# Altium footprint library SOP.PcbLib: 214 footprints (part 9 of 14)
Each footprint in its own frame and in the unit in brackets; x right, y up, seen from the top. Pads: shape width x height; smd on the part's side, far side on the other; paste and mask are expansions set on the pad; w line width, h text height; cw(c..) or ccw(c..) is an arc to the next point about the centre after c.
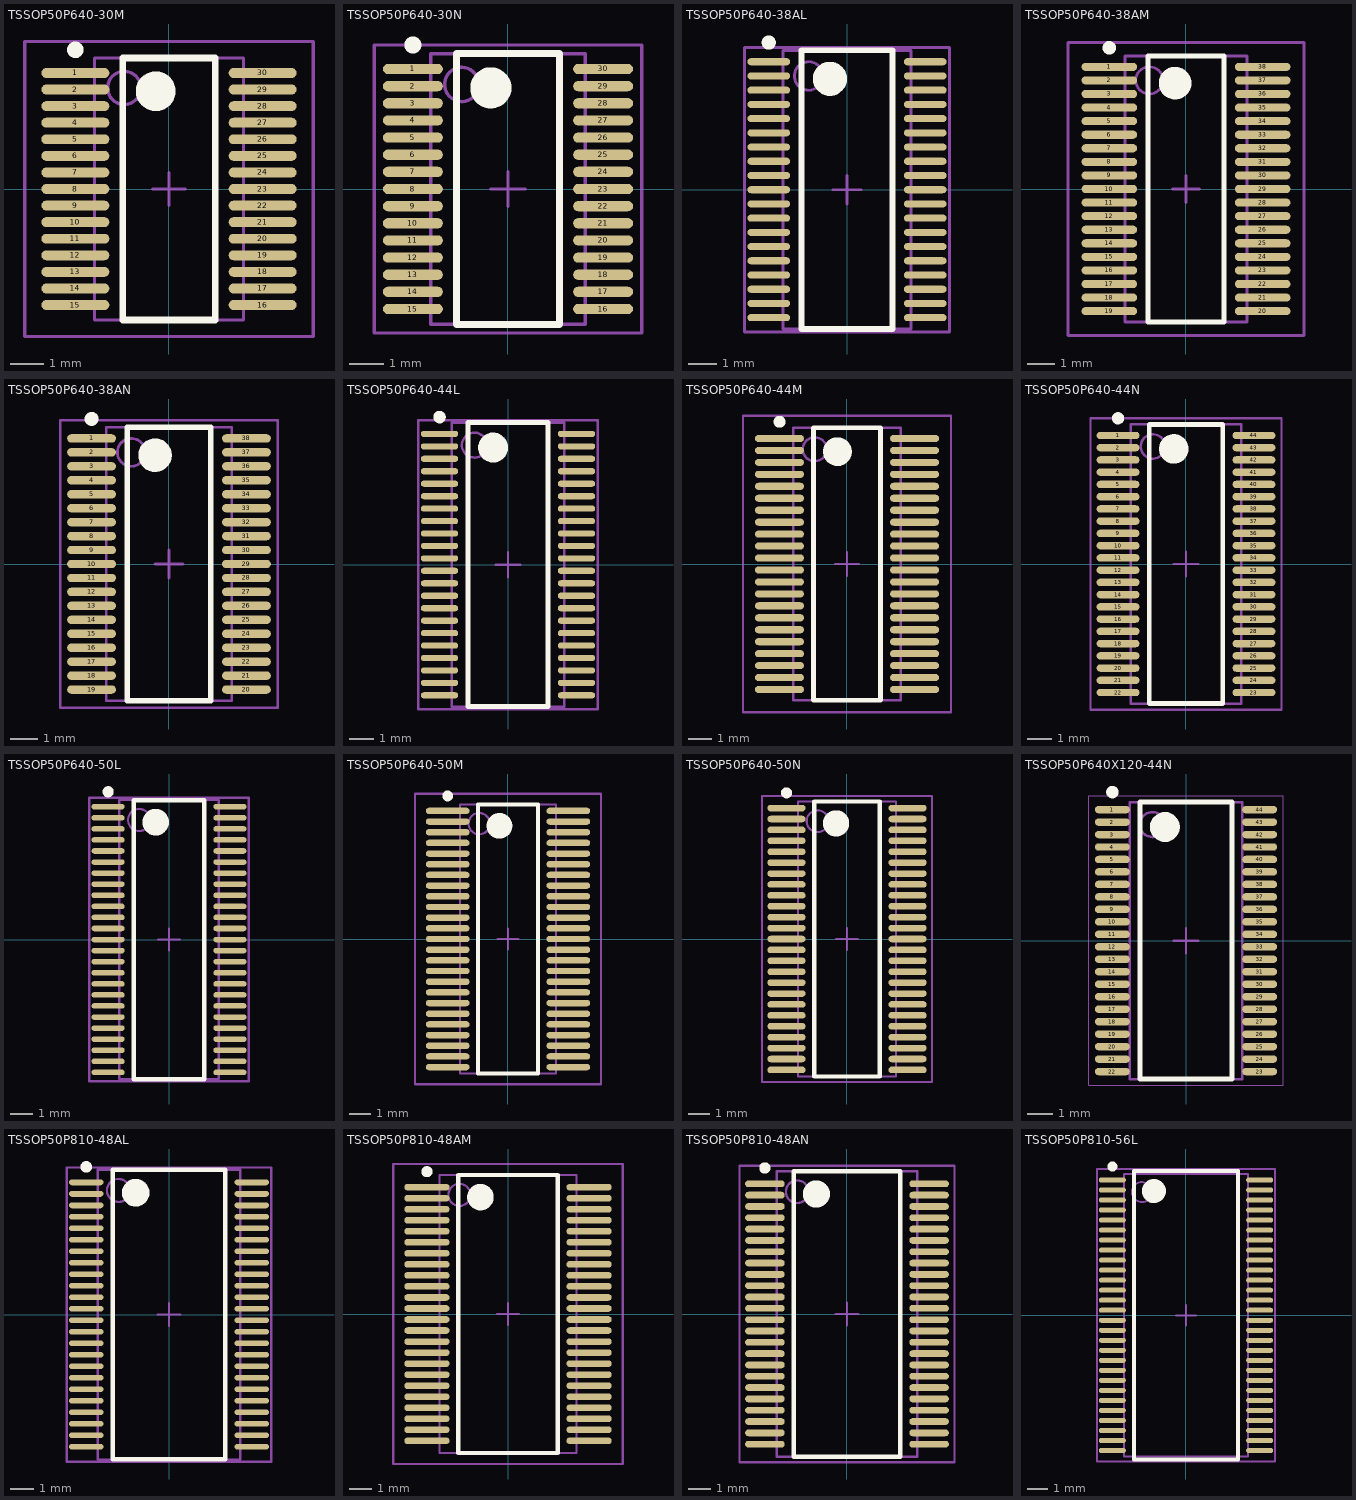
[diagram p8: the footprints below, top view; thin cyan lines are the x and y axes]

## TSSOP50P640-30M [mm] "TSSOP, 30-Leads, Body 7.8x4.4mm, Pitch 0.5mm, IPC Low Density"
height 1.2
pads (30):
  oval 2.05x0.3 smd: 1(-2.825,3.5) 2(-2.825,3) 3(-2.825,2.5) 4(-2.825,2) 5(-2.825,1.5) 6(-2.825,1) 7(-2.825,0.5) 8(-2.825,0) 9(-2.825,-0.5) 10(-2.825,-1) 11(-2.825,-1.5) 12(-2.825,-2) 13(-2.825,-2.5) 14(-2.825,-3) 15(-2.825,-3.5) 16(2.825,-3.5) 17(2.825,-3) 18(2.825,-2.5) 19(2.825,-2) 20(2.825,-1.5) 21(2.825,-1) 22(2.825,-0.5) 23(2.825,0) 24(2.825,0.5) 25(2.825,1) 26(2.825,1.5) 27(2.825,2) 28(2.825,2.5) 29(2.825,3) 30(2.825,3.5)
Top Overlay:
  circle w0.6: c-0.4,2.95 r0.3
  circle w0.25: c-2.825,4.2 r0.125
  lines w0.2: -1.4,-3.95 1.4,-3.95 1.4,3.95 -1.4,3.95 -1.4,-3.95
Mechanical 13:
  circle w0.1: c-1.35,3.05 r0.5
  lines w0.1: -2.25,-3.95 2.25,-3.95 2.25,3.95 -2.25,3.95 -2.25,-3.95
Mechanical 15:
  lines w0.1: -0.5,0 0.5,0 ; 0,-0.5 0,0.5 ; -4.35,-4.45 4.35,-4.45 4.35,4.45 -4.35,4.45 -4.35,-4.45
3D body: height 1.2, standoff 0, extent -2.25,-3.95 2.25,3.95

## TSSOP50P640-30N [mm] "TSSOP, 30-Leads, Body 7.8x4.4mm, Pitch 0.5mm, IPC Medium Density"
height 1.2
pads (30):
  oval 1.75x0.3 smd: 1(-2.775,3.5) 2(-2.775,3) 3(-2.775,2.5) 4(-2.775,2) 5(-2.775,1.5) 6(-2.775,1) 7(-2.775,0.5) 8(-2.775,0) 9(-2.775,-0.5) 10(-2.775,-1) 11(-2.775,-1.5) 12(-2.775,-2) 13(-2.775,-2.5) 14(-2.775,-3) 15(-2.775,-3.5) 16(2.775,-3.5) 17(2.775,-3) 18(2.775,-2.5) 19(2.775,-2) 20(2.775,-1.5) 21(2.775,-1) 22(2.775,-0.5) 23(2.775,0) 24(2.775,0.5) 25(2.775,1) 26(2.775,1.5) 27(2.775,2) 28(2.775,2.5) 29(2.775,3) 30(2.775,3.5)
Top Overlay:
  circle w0.6: c-0.5,2.95 r0.3
  circle w0.25: c-2.775,4.2 r0.125
  lines w0.2: -1.5,-3.95 1.5,-3.95 1.5,3.95 -1.5,3.95 -1.5,-3.95
Mechanical 13:
  circle w0.1: c-1.35,3.05 r0.5
  lines w0.1: -2.25,-3.95 2.25,-3.95 2.25,3.95 -2.25,3.95 -2.25,-3.95
Mechanical 15:
  lines w0.1: -0.5,0 0.5,0 ; 0,-0.5 0,0.5 ; -3.9,-4.2 3.9,-4.2 3.9,4.2 -3.9,4.2 -3.9,-4.2
3D body: height 1.2, standoff 0, extent -2.25,-3.95 2.25,3.95

## TSSOP50P640-38AL [mm] "TSSOP, 38-Leads, Body 9.7x4.4mm, Pitch 0.5mm, IPC High Density"
height 1.2
pads (38):
  oval 1.5x0.25 smd: 1(-2.75,4.5) 2(-2.75,4) 3(-2.75,3.5) 4(-2.75,3) 5(-2.75,2.5) 6(-2.75,2) 7(-2.75,1.5) 8(-2.75,1) 9(-2.75,0.5) 10(-2.75,0) 11(-2.75,-0.5) 12(-2.75,-1) 13(-2.75,-1.5) 14(-2.75,-2) 15(-2.75,-2.5) 16(-2.75,-3) 17(-2.75,-3.5) 18(-2.75,-4) 19(-2.75,-4.5) 20(2.75,-4.5) 21(2.75,-4) 22(2.75,-3.5) 23(2.75,-3) 24(2.75,-2.5) 25(2.75,-2) 26(2.75,-1.5) 27(2.75,-1) 28(2.75,-0.5) 29(2.75,0) 30(2.75,0.5) 31(2.75,1) 32(2.75,1.5) 33(2.75,2) 34(2.75,2.5) 35(2.75,3) 36(2.75,3.5) 37(2.75,4) 38(2.75,4.5)
Top Overlay:
  circle w0.6: c-0.6,3.9 r0.3
  circle w0.25: c-2.75,5.175 r0.125
  lines w0.2: -1.6,-4.9 1.6,-4.9 1.6,4.9 -1.6,4.9 -1.6,-4.9
Mechanical 13:
  circle w0.1: c-1.35,4 r0.5
  lines w0.1: -2.25,-4.9 2.25,-4.9 2.25,4.9 -2.25,4.9 -2.25,-4.9
Mechanical 15:
  lines w0.1: -0.5,0 0.5,0 ; 0,-0.5 0,0.5 ; -3.6,-5 3.6,-5 3.6,5 -3.6,5 -3.6,-5
3D body: height 1.2, standoff 0, extent -2.25,-4.9 2.25,4.9

## TSSOP50P640-38AM [mm] "TSSOP, 38-Leads, Body 9.7x4.4mm, Pitch 0.5mm, IPC Low Density"
height 1.2
pads (38):
  oval 2.05x0.3 smd: 1(-2.825,4.5) 2(-2.825,4) 3(-2.825,3.5) 4(-2.825,3) 5(-2.825,2.5) 6(-2.825,2) 7(-2.825,1.5) 8(-2.825,1) 9(-2.825,0.5) 10(-2.825,0) 11(-2.825,-0.5) 12(-2.825,-1) 13(-2.825,-1.5) 14(-2.825,-2) 15(-2.825,-2.5) 16(-2.825,-3) 17(-2.825,-3.5) 18(-2.825,-4) 19(-2.825,-4.5) 20(2.825,-4.5) 21(2.825,-4) 22(2.825,-3.5) 23(2.825,-3) 24(2.825,-2.5) 25(2.825,-2) 26(2.825,-1.5) 27(2.825,-1) 28(2.825,-0.5) 29(2.825,0) 30(2.825,0.5) 31(2.825,1) 32(2.825,1.5) 33(2.825,2) 34(2.825,2.5) 35(2.825,3) 36(2.825,3.5) 37(2.825,4) 38(2.825,4.5)
Top Overlay:
  circle w0.6: c-0.4,3.9 r0.3
  circle w0.25: c-2.825,5.2 r0.125
  lines w0.2: -1.4,-4.9 1.4,-4.9 1.4,4.9 -1.4,4.9 -1.4,-4.9
Mechanical 13:
  circle w0.1: c-1.35,4 r0.5
  lines w0.1: -2.25,-4.9 2.25,-4.9 2.25,4.9 -2.25,4.9 -2.25,-4.9
Mechanical 15:
  lines w0.1: -0.5,0 0.5,0 ; 0,-0.5 0,0.5 ; -4.35,-5.4 4.35,-5.4 4.35,5.4 -4.35,5.4 -4.35,-5.4
3D body: height 1.2, standoff 0, extent -2.25,-4.9 2.25,4.9

## TSSOP50P640-38AN [mm] "TSSOP, 38-Leads, Body 9.7x4.4mm, Pitch 0.5mm, IPC Medium Density"
height 1.2
pads (38):
  oval 1.75x0.3 smd: 1(-2.775,4.5) 2(-2.775,4) 3(-2.775,3.5) 4(-2.775,3) 5(-2.775,2.5) 6(-2.775,2) 7(-2.775,1.5) 8(-2.775,1) 9(-2.775,0.5) 10(-2.775,0) 11(-2.775,-0.5) 12(-2.775,-1) 13(-2.775,-1.5) 14(-2.775,-2) 15(-2.775,-2.5) 16(-2.775,-3) 17(-2.775,-3.5) 18(-2.775,-4) 19(-2.775,-4.5) 20(2.775,-4.5) 21(2.775,-4) 22(2.775,-3.5) 23(2.775,-3) 24(2.775,-2.5) 25(2.775,-2) 26(2.775,-1.5) 27(2.775,-1) 28(2.775,-0.5) 29(2.775,0) 30(2.775,0.5) 31(2.775,1) 32(2.775,1.5) 33(2.775,2) 34(2.775,2.5) 35(2.775,3) 36(2.775,3.5) 37(2.775,4) 38(2.775,4.5)
Top Overlay:
  circle w0.25: c-2.775,5.2 r0.125
  circle w0.6: c-0.5,3.9 r0.3
  lines w0.2: -1.5,-4.9 -1.5,4.9 1.5,4.9 1.5,-4.9 -1.5,-4.9
Mechanical 13:
  circle w0.1: c-1.35,4 r0.5
  lines w0.1: -2.25,-4.9 -2.25,4.9 2.25,4.9 2.25,-4.9 -2.25,-4.9
Mechanical 15:
  lines w0.1: -0.5,0 0.5,0 ; 0,-0.5 0,0.5 ; -3.9,-5.15 -3.9,5.15 3.9,5.15 3.9,-5.15 -3.9,-5.15
3D body: height 1.2, standoff 0, extent -2.25,-4.9 2.25,4.9

## TSSOP50P640-44L [mm] "TSSOP, 44-Leads, Body 11x4.4mm, Pitch 0.5mm, IPC High Density"
height 1.2
pads (44):
  oval 1.5x0.25 smd: 1(-2.75,5.25) 2(-2.75,4.75) 3(-2.75,4.25) 4(-2.75,3.75) 5(-2.75,3.25) 6(-2.75,2.75) 7(-2.75,2.25) 8(-2.75,1.75) 9(-2.75,1.25) 10(-2.75,0.75) 11(-2.75,0.25) 12(-2.75,-0.25) 13(-2.75,-0.75) 14(-2.75,-1.25) 15(-2.75,-1.75) 16(-2.75,-2.25) 17(-2.75,-2.75) 18(-2.75,-3.25) 19(-2.75,-3.75) 20(-2.75,-4.25) 21(-2.75,-4.75) 22(-2.75,-5.25) 23(2.75,-5.25) 24(2.75,-4.75) 25(2.75,-4.25) 26(2.75,-3.75) 27(2.75,-3.25) 28(2.75,-2.75) 29(2.75,-2.25) 30(2.75,-1.75) 31(2.75,-1.25) 32(2.75,-0.75) 33(2.75,-0.25) 34(2.75,0.25) 35(2.75,0.75) 36(2.75,1.25) 37(2.75,1.75) 38(2.75,2.25) 39(2.75,2.75) 40(2.75,3.25) 41(2.75,3.75) 42(2.75,4.25) 43(2.75,4.75) 44(2.75,5.25)
Top Overlay:
  circle w0.25: c-2.75,5.925 r0.125
  circle w0.6: c-0.6,4.7 r0.3
  lines w0.2: -1.6,-5.7 -1.6,5.7 1.6,5.7 1.6,-5.7 -1.6,-5.7
Mechanical 13:
  circle w0.1: c-1.35,4.8 r0.5
  lines w0.1: -2.25,-5.7 -2.25,5.7 2.25,5.7 2.25,-5.7 -2.25,-5.7
Mechanical 15:
  lines w0.1: -0.5,0 0.5,0 ; 0,-0.5 0,0.5 ; -3.6,-5.8 -3.6,5.8 3.6,5.8 3.6,-5.8 -3.6,-5.8
3D body: height 1.2, standoff 0, extent -2.25,-5.7 2.25,5.7

## TSSOP50P640-44M [mm] "TSSOP, 44-Leads, Body 11x4.4mm, Pitch 0.5mm, IPC Low Density"
height 1.2
pads (44):
  oval 2.05x0.3 smd: 1(-2.825,5.25) 2(-2.825,4.75) 3(-2.825,4.25) 4(-2.825,3.75) 5(-2.825,3.25) 6(-2.825,2.75) 7(-2.825,2.25) 8(-2.825,1.75) 9(-2.825,1.25) 10(-2.825,0.75) 11(-2.825,0.25) 12(-2.825,-0.25) 13(-2.825,-0.75) 14(-2.825,-1.25) 15(-2.825,-1.75) 16(-2.825,-2.25) 17(-2.825,-2.75) 18(-2.825,-3.25) 19(-2.825,-3.75) 20(-2.825,-4.25) 21(-2.825,-4.75) 22(-2.825,-5.25) 23(2.825,-5.25) 24(2.825,-4.75) 25(2.825,-4.25) 26(2.825,-3.75) 27(2.825,-3.25) 28(2.825,-2.75) 29(2.825,-2.25) 30(2.825,-1.75) 31(2.825,-1.25) 32(2.825,-0.75) 33(2.825,-0.25) 34(2.825,0.25) 35(2.825,0.75) 36(2.825,1.25) 37(2.825,1.75) 38(2.825,2.25) 39(2.825,2.75) 40(2.825,3.25) 41(2.825,3.75) 42(2.825,4.25) 43(2.825,4.75) 44(2.825,5.25)
Top Overlay:
  circle w0.25: c-2.825,5.95 r0.125
  circle w0.6: c-0.4,4.7 r0.3
  lines w0.2: -1.4,-5.7 -1.4,5.7 1.4,5.7 1.4,-5.7 -1.4,-5.7
Mechanical 13:
  circle w0.1: c-1.35,4.8 r0.5
  lines w0.1: -2.25,-5.7 -2.25,5.7 2.25,5.7 2.25,-5.7 -2.25,-5.7
Mechanical 15:
  lines w0.1: -0.5,0 0.5,0 ; 0,-0.5 0,0.5 ; -4.35,-6.2 -4.35,6.2 4.35,6.2 4.35,-6.2 -4.35,-6.2
3D body: height 1.2, standoff 0, extent -2.25,-5.7 2.25,5.7

## TSSOP50P640-44N [mm] "TSSOP, 44-Leads, Body 11x4.4mm, Pitch 0.5mm, IPC Medium Density"
height 1.2
pads (44):
  oval 1.75x0.3 smd: 1(-2.775,5.25) 2(-2.775,4.75) 3(-2.775,4.25) 4(-2.775,3.75) 5(-2.775,3.25) 6(-2.775,2.75) 7(-2.775,2.25) 8(-2.775,1.75) 9(-2.775,1.25) 10(-2.775,0.75) 11(-2.775,0.25) 12(-2.775,-0.25) 13(-2.775,-0.75) 14(-2.775,-1.25) 15(-2.775,-1.75) 16(-2.775,-2.25) 17(-2.775,-2.75) 18(-2.775,-3.25) 19(-2.775,-3.75) 20(-2.775,-4.25) 21(-2.775,-4.75) 22(-2.775,-5.25) 23(2.775,-5.25) 24(2.775,-4.75) 25(2.775,-4.25) 26(2.775,-3.75) 27(2.775,-3.25) 28(2.775,-2.75) 29(2.775,-2.25) 30(2.775,-1.75) 31(2.775,-1.25) 32(2.775,-0.75) 33(2.775,-0.25) 34(2.775,0.25) 35(2.775,0.75) 36(2.775,1.25) 37(2.775,1.75) 38(2.775,2.25) 39(2.775,2.75) 40(2.775,3.25) 41(2.775,3.75) 42(2.775,4.25) 43(2.775,4.75) 44(2.775,5.25)
Top Overlay:
  circle w0.25: c-2.775,5.95 r0.125
  circle w0.6: c-0.5,4.7 r0.3
  lines w0.2: -1.5,-5.7 -1.5,5.7 1.5,5.7 1.5,-5.7 -1.5,-5.7
Mechanical 13:
  circle w0.1: c-1.35,4.8 r0.5
  lines w0.1: -2.25,-5.7 -2.25,5.7 2.25,5.7 2.25,-5.7 -2.25,-5.7
Mechanical 15:
  lines w0.1: -0.5,0 0.5,0 ; 0,-0.5 0,0.5 ; -3.9,-5.95 -3.9,5.95 3.9,5.95 3.9,-5.95 -3.9,-5.95
3D body: height 1.2, standoff 0, extent -2.25,-5.7 2.25,5.7

## TSSOP50P640-50L [mm] "TSSOP, 50-Leads, Body 12.5x4.4mm, Pitch 0.5mm, IPC High Density"
height 1.2
pads (50):
  oval 1.5x0.25 smd: 1(-2.75,6) 2(-2.75,5.5) 3(-2.75,5) 4(-2.75,4.5) 5(-2.75,4) 6(-2.75,3.5) 7(-2.75,3) 8(-2.75,2.5) 9(-2.75,2) 10(-2.75,1.5) 11(-2.75,1) 12(-2.75,0.5) 13(-2.75,0) 14(-2.75,-0.5) 15(-2.75,-1) 16(-2.75,-1.5) 17(-2.75,-2) 18(-2.75,-2.5) 19(-2.75,-3) 20(-2.75,-3.5) 21(-2.75,-4) 22(-2.75,-4.5) 23(-2.75,-5) 24(-2.75,-5.5) 25(-2.75,-6) 26(2.75,-6) 27(2.75,-5.5) 28(2.75,-5) 29(2.75,-4.5) 30(2.75,-4) 31(2.75,-3.5) 32(2.75,-3) 33(2.75,-2.5) 34(2.75,-2) 35(2.75,-1.5) 36(2.75,-1) 37(2.75,-0.5) 38(2.75,0) 39(2.75,0.5) 40(2.75,1) 41(2.75,1.5) 42(2.75,2) 43(2.75,2.5) 44(2.75,3) 45(2.75,3.5) 46(2.75,4) 47(2.75,4.5) 48(2.75,5) 49(2.75,5.5) 50(2.75,6)
Top Overlay:
  circle w0.6: c-0.6,5.3 r0.3
  circle w0.25: c-2.75,6.675 r0.125
  lines w0.2: -1.6,-6.3 1.6,-6.3 1.6,6.3 -1.6,6.3 -1.6,-6.3
Mechanical 13:
  circle w0.1: c-1.35,5.4 r0.5
  lines w0.1: -2.25,-6.3 2.25,-6.3 2.25,6.3 -2.25,6.3 -2.25,-6.3
Mechanical 15:
  lines w0.1: -0.5,0 0.5,0 ; 0,-0.5 0,0.5 ; -3.6,-6.4 3.6,-6.4 3.6,6.4 -3.6,6.4 -3.6,-6.4
3D body: height 1.2, standoff 0, extent -2.25,-6.3 2.25,6.3

## TSSOP50P640-50M [mm] "TSSOP, 50-Leads, Body 12.5x4.4mm, Pitch 0.5mm, IPC Low Density"
height 1.2
pads (50):
  oval 2.05x0.3 smd: 1(-2.825,6) 2(-2.825,5.5) 3(-2.825,5) 4(-2.825,4.5) 5(-2.825,4) 6(-2.825,3.5) 7(-2.825,3) 8(-2.825,2.5) 9(-2.825,2) 10(-2.825,1.5) 11(-2.825,1) 12(-2.825,0.5) 13(-2.825,0) 14(-2.825,-0.5) 15(-2.825,-1) 16(-2.825,-1.5) 17(-2.825,-2) 18(-2.825,-2.5) 19(-2.825,-3) 20(-2.825,-3.5) 21(-2.825,-4) 22(-2.825,-4.5) 23(-2.825,-5) 24(-2.825,-5.5) 25(-2.825,-6) 26(2.825,-6) 27(2.825,-5.5) 28(2.825,-5) 29(2.825,-4.5) 30(2.825,-4) 31(2.825,-3.5) 32(2.825,-3) 33(2.825,-2.5) 34(2.825,-2) 35(2.825,-1.5) 36(2.825,-1) 37(2.825,-0.5) 38(2.825,0) 39(2.825,0.5) 40(2.825,1) 41(2.825,1.5) 42(2.825,2) 43(2.825,2.5) 44(2.825,3) 45(2.825,3.5) 46(2.825,4) 47(2.825,4.5) 48(2.825,5) 49(2.825,5.5) 50(2.825,6)
Top Overlay:
  circle w0.6: c-0.4,5.3 r0.3
  circle w0.25: c-2.825,6.7 r0.125
  lines w0.2: -1.4,-6.3 1.4,-6.3 1.4,6.3 -1.4,6.3 -1.4,-6.3
Mechanical 13:
  circle w0.1: c-1.35,5.4 r0.5
  lines w0.1: -2.25,-6.3 2.25,-6.3 2.25,6.3 -2.25,6.3 -2.25,-6.3
Mechanical 15:
  lines w0.1: -0.5,0 0.5,0 ; 0,-0.5 0,0.5 ; -4.35,-6.8 4.35,-6.8 4.35,6.8 -4.35,6.8 -4.35,-6.8
3D body: height 1.2, standoff 0, extent -2.25,-6.3 2.25,6.3

## TSSOP50P640-50N [mm] "TSSOP, 50-Leads, Body 12.5x4.4mm, Pitch 0.5mm, IPC Medium Density"
height 1.2
pads (50):
  oval 1.75x0.3 smd: 1(-2.775,6) 2(-2.775,5.5) 3(-2.775,5) 4(-2.775,4.5) 5(-2.775,4) 6(-2.775,3.5) 7(-2.775,3) 8(-2.775,2.5) 9(-2.775,2) 10(-2.775,1.5) 11(-2.775,1) 12(-2.775,0.5) 13(-2.775,0) 14(-2.775,-0.5) 15(-2.775,-1) 16(-2.775,-1.5) 17(-2.775,-2) 18(-2.775,-2.5) 19(-2.775,-3) 20(-2.775,-3.5) 21(-2.775,-4) 22(-2.775,-4.5) 23(-2.775,-5) 24(-2.775,-5.5) 25(-2.775,-6) 26(2.775,-6) 27(2.775,-5.5) 28(2.775,-5) 29(2.775,-4.5) 30(2.775,-4) 31(2.775,-3.5) 32(2.775,-3) 33(2.775,-2.5) 34(2.775,-2) 35(2.775,-1.5) 36(2.775,-1) 37(2.775,-0.5) 38(2.775,0) 39(2.775,0.5) 40(2.775,1) 41(2.775,1.5) 42(2.775,2) 43(2.775,2.5) 44(2.775,3) 45(2.775,3.5) 46(2.775,4) 47(2.775,4.5) 48(2.775,5) 49(2.775,5.5) 50(2.775,6)
Top Overlay:
  circle w0.25: c-2.775,6.7 r0.125
  circle w0.6: c-0.5,5.3 r0.3
  lines w0.2: -1.5,-6.3 -1.5,6.3 1.5,6.3 1.5,-6.3 -1.5,-6.3
Mechanical 13:
  circle w0.1: c-1.35,5.4 r0.5
  lines w0.1: -2.25,-6.3 -2.25,6.3 2.25,6.3 2.25,-6.3 -2.25,-6.3
Mechanical 15:
  lines w0.1: -0.5,0 0.5,0 ; 0,-0.5 0,0.5 ; -3.9,-6.55 -3.9,6.55 3.9,6.55 3.9,-6.55 -3.9,-6.55
3D body: height 1.2, standoff 0, extent -2.25,-6.3 2.25,6.3

## TSSOP50P640X120-44N [mm] "TSSOP, 44-Leads, Body 11,00x4,40mm, Pitch 0,50mm, IPC Medium Density"
height 1.2
pads (44):
  oval 1.4x0.3 smd: 1(-2.95,5.25) 2(-2.95,4.75) 3(-2.95,4.25) 4(-2.95,3.75) 5(-2.95,3.25) 6(-2.95,2.75) 7(-2.95,2.25) 8(-2.95,1.75) 9(-2.95,1.25) 10(-2.95,0.75) 11(-2.95,0.25) 12(-2.95,-0.25) 13(-2.95,-0.75) 14(-2.95,-1.25) 15(-2.95,-1.75) 16(-2.95,-2.25) 17(-2.95,-2.75) 18(-2.95,-3.25) 19(-2.95,-3.75) 20(-2.95,-4.25) 21(-2.95,-4.75) 22(-2.95,-5.25) 23(2.95,-5.25) 24(2.95,-4.75) 25(2.95,-4.25) 26(2.95,-3.75) 27(2.95,-3.25) 28(2.95,-2.75) 29(2.95,-2.25) 30(2.95,-1.75) 31(2.95,-1.25) 32(2.95,-0.75) 33(2.95,-0.25) 34(2.95,0.25) 35(2.95,0.75) 36(2.95,1.25) 37(2.95,1.75) 38(2.95,2.25) 39(2.95,2.75) 40(2.95,3.25) 41(2.95,3.75) 42(2.95,4.25) 43(2.95,4.75) 44(2.95,5.25)
Top Overlay:
  circle w0.6: c-0.85,4.55 r0.3
  circle w0.25: c-2.95,5.95 r0.125
  lines w0.2: -1.85,-5.55 1.85,-5.55 1.85,5.55 -1.85,5.55 -1.85,-5.55
Mechanical 13:
  circle w0.1: c-1.35,4.65 r0.5
  lines w0.1: -2.25,-5.55 2.25,-5.55 2.25,5.55 -2.25,5.55 -2.25,-5.55
Mechanical 15:
  lines w0.05: -3.9,-5.8 3.9,-5.8 3.9,5.8 -3.9,5.8 -3.9,-5.8
  lines w0.1: -0.5,0 0.5,0 ; 0,-0.5 0,0.5
3D body "TSSOP50P640X120-44N.step": height 1.2, standoff 0, extent -3.2,-5.55 3.2,5.55

## TSSOP50P810-48AL [mm] "TSSOP, 48-Leads, Body 12.5x6.1mm, Pitch 0.5mm, IPC High Density"
height 1.2
pads (48):
  oval 1.5x0.25 smd: 1(-3.6,5.75) 2(-3.6,5.25) 3(-3.6,4.75) 4(-3.6,4.25) 5(-3.6,3.75) 6(-3.6,3.25) 7(-3.6,2.75) 8(-3.6,2.25) 9(-3.6,1.75) 10(-3.6,1.25) 11(-3.6,0.75) 12(-3.6,0.25) 13(-3.6,-0.25) 14(-3.6,-0.75) 15(-3.6,-1.25) 16(-3.6,-1.75) 17(-3.6,-2.25) 18(-3.6,-2.75) 19(-3.6,-3.25) 20(-3.6,-3.75) 21(-3.6,-4.25) 22(-3.6,-4.75) 23(-3.6,-5.25) 24(-3.6,-5.75) 25(3.6,-5.75) 26(3.6,-5.25) 27(3.6,-4.75) 28(3.6,-4.25) 29(3.6,-3.75) 30(3.6,-3.25) 31(3.6,-2.75) 32(3.6,-2.25) 33(3.6,-1.75) 34(3.6,-1.25) 35(3.6,-0.75) 36(3.6,-0.25) 37(3.6,0.25) 38(3.6,0.75) 39(3.6,1.25) 40(3.6,1.75) 41(3.6,2.25) 42(3.6,2.75) 43(3.6,3.25) 44(3.6,3.75) 45(3.6,4.25) 46(3.6,4.75) 47(3.6,5.25) 48(3.6,5.75)
Top Overlay:
  circle w0.6: c-1.45,5.3 r0.3
  circle w0.25: c-3.6,6.425 r0.125
  lines w0.2: -2.45,-6.3 2.45,-6.3 2.45,6.3 -2.45,6.3 -2.45,-6.3
Mechanical 13:
  circle w0.1: c-2.2,5.4 r0.5
  lines w0.1: -3.1,-6.3 3.1,-6.3 3.1,6.3 -3.1,6.3 -3.1,-6.3
Mechanical 15:
  lines w0.1: -0.5,0 0.5,0 ; 0,-0.5 0,0.5 ; -4.45,-6.4 4.45,-6.4 4.45,6.4 -4.45,6.4 -4.45,-6.4
3D body: height 1.2, standoff 0, extent -3.1,-6.3 3.1,6.3

## TSSOP50P810-48AM [mm] "TSSOP, 48-Leads, Body 12.5x6.1mm, Pitch 0.5mm, IPC Low Density"
height 1.2
pads (48):
  oval 2.05x0.3 smd: 1(-3.675,5.75) 2(-3.675,5.25) 3(-3.675,4.75) 4(-3.675,4.25) 5(-3.675,3.75) 6(-3.675,3.25) 7(-3.675,2.75) 8(-3.675,2.25) 9(-3.675,1.75) 10(-3.675,1.25) 11(-3.675,0.75) 12(-3.675,0.25) 13(-3.675,-0.25) 14(-3.675,-0.75) 15(-3.675,-1.25) 16(-3.675,-1.75) 17(-3.675,-2.25) 18(-3.675,-2.75) 19(-3.675,-3.25) 20(-3.675,-3.75) 21(-3.675,-4.25) 22(-3.675,-4.75) 23(-3.675,-5.25) 24(-3.675,-5.75) 25(3.675,-5.75) 26(3.675,-5.25) 27(3.675,-4.75) 28(3.675,-4.25) 29(3.675,-3.75) 30(3.675,-3.25) 31(3.675,-2.75) 32(3.675,-2.25) 33(3.675,-1.75) 34(3.675,-1.25) 35(3.675,-0.75) 36(3.675,-0.25) 37(3.675,0.25) 38(3.675,0.75) 39(3.675,1.25) 40(3.675,1.75) 41(3.675,2.25) 42(3.675,2.75) 43(3.675,3.25) 44(3.675,3.75) 45(3.675,4.25) 46(3.675,4.75) 47(3.675,5.25) 48(3.675,5.75)
Top Overlay:
  circle w0.25: c-3.675,6.45 r0.125
  circle w0.6: c-1.25,5.3 r0.3
  lines w0.2: -2.25,-6.3 -2.25,6.3 2.25,6.3 2.25,-6.3 -2.25,-6.3
Mechanical 13:
  circle w0.1: c-2.2,5.4 r0.5
  lines w0.1: -3.1,-6.3 -3.1,6.3 3.1,6.3 3.1,-6.3 -3.1,-6.3
Mechanical 15:
  lines w0.1: -0.5,0 0.5,0 ; 0,-0.5 0,0.5 ; -5.2,-6.8 -5.2,6.8 5.2,6.8 5.2,-6.8 -5.2,-6.8
3D body: height 1.2, standoff 0, extent -3.1,-6.3 3.1,6.3

## TSSOP50P810-48AN [mm] "TSSOP, 48-Leads, Body 12.5x6.1mm, Pitch 0.5mm, IPC Medium Density"
height 1.2
pads (48):
  oval 1.75x0.3 smd: 1(-3.625,5.75) 2(-3.625,5.25) 3(-3.625,4.75) 4(-3.625,4.25) 5(-3.625,3.75) 6(-3.625,3.25) 7(-3.625,2.75) 8(-3.625,2.25) 9(-3.625,1.75) 10(-3.625,1.25) 11(-3.625,0.75) 12(-3.625,0.25) 13(-3.625,-0.25) 14(-3.625,-0.75) 15(-3.625,-1.25) 16(-3.625,-1.75) 17(-3.625,-2.25) 18(-3.625,-2.75) 19(-3.625,-3.25) 20(-3.625,-3.75) 21(-3.625,-4.25) 22(-3.625,-4.75) 23(-3.625,-5.25) 24(-3.625,-5.75) 25(3.625,-5.75) 26(3.625,-5.25) 27(3.625,-4.75) 28(3.625,-4.25) 29(3.625,-3.75) 30(3.625,-3.25) 31(3.625,-2.75) 32(3.625,-2.25) 33(3.625,-1.75) 34(3.625,-1.25) 35(3.625,-0.75) 36(3.625,-0.25) 37(3.625,0.25) 38(3.625,0.75) 39(3.625,1.25) 40(3.625,1.75) 41(3.625,2.25) 42(3.625,2.75) 43(3.625,3.25) 44(3.625,3.75) 45(3.625,4.25) 46(3.625,4.75) 47(3.625,5.25) 48(3.625,5.75)
Top Overlay:
  circle w0.25: c-3.625,6.45 r0.125
  circle w0.6: c-1.35,5.3 r0.3
  lines w0.2: -2.35,-6.3 -2.35,6.3 2.35,6.3 2.35,-6.3 -2.35,-6.3
Mechanical 13:
  circle w0.1: c-2.2,5.4 r0.5
  lines w0.1: -3.1,-6.3 -3.1,6.3 3.1,6.3 3.1,-6.3 -3.1,-6.3
Mechanical 15:
  lines w0.1: -0.5,0 0.5,0 ; 0,-0.5 0,0.5 ; -4.75,-6.55 -4.75,6.55 4.75,6.55 4.75,-6.55 -4.75,-6.55
3D body: height 1.2, standoff 0, extent -3.1,-6.3 3.1,6.3

## TSSOP50P810-56L [mm] "TSSOP, 56-Leads, Body 14x6.1mm, Pitch 0.5mm, IPC High Density"
height 1.2
pads (56):
  oval 1.35x0.25 smd: 1(-3.675,6.75) 2(-3.675,6.25) 3(-3.675,5.75) 4(-3.675,5.25) 5(-3.675,4.75) 6(-3.675,4.25) 7(-3.675,3.75) 8(-3.675,3.25) 9(-3.675,2.75) 10(-3.675,2.25) 11(-3.675,1.75) 12(-3.675,1.25) 13(-3.675,0.75) 14(-3.675,0.25) 15(-3.675,-0.25) 16(-3.675,-0.75) 17(-3.675,-1.25) 18(-3.675,-1.75) 19(-3.675,-2.25) 20(-3.675,-2.75) 21(-3.675,-3.25) 22(-3.675,-3.75) 23(-3.675,-4.25) 24(-3.675,-4.75) 25(-3.675,-5.25) 26(-3.675,-5.75) 27(-3.675,-6.25) 28(-3.675,-6.75) 29(3.675,-6.75) 30(3.675,-6.25) 31(3.675,-5.75) 32(3.675,-5.25) 33(3.675,-4.75) 34(3.675,-4.25) 35(3.675,-3.75) 36(3.675,-3.25) 37(3.675,-2.75) 38(3.675,-2.25) 39(3.675,-1.75) 40(3.675,-1.25) 41(3.675,-0.75) 42(3.675,-0.25) 43(3.675,0.25) 44(3.675,0.75) 45(3.675,1.25) 46(3.675,1.75) 47(3.675,2.25) 48(3.675,2.75) 49(3.675,3.25) 50(3.675,3.75) 51(3.675,4.25) 52(3.675,4.75) 53(3.675,5.25) 54(3.675,5.75) 55(3.675,6.25) 56(3.675,6.75)
Top Overlay:
  circle w0.6: c-1.6,6.2 r0.3
  circle w0.25: c-3.675,7.425 r0.125
  lines w0.2: -2.6,-7.2 2.6,-7.2 2.6,7.2 -2.6,7.2 -2.6,-7.2
Mechanical 13:
  circle w0.1: c-2.2,6.15 r0.5
  lines w0.1: -3.1,-7.05 3.1,-7.05 3.1,7.05 -3.1,7.05 -3.1,-7.05
Mechanical 15:
  lines w0.1: -0.5,0 0.5,0 ; 0,-0.5 0,0.5 ; -4.45,-7.3 4.45,-7.3 4.45,7.3 -4.45,7.3 -4.45,-7.3
3D body: height 1.2, standoff 0, extent -3.1,-7.05 3.1,7.05